# EAGLE library part MAX1522EUT+T (library JH)
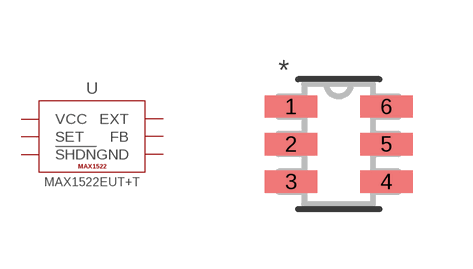
[diagram p0: symbol with the pads of SOT23-6; footprint SOT23-6]

Designator prefix U

## MAX1522EUT+T (MANUFACTURER_PART_NUMBER: MAX1522EUT+T; VENDOR: MAXIM)  [SOT23-6]
1  GND  pwr
2  FB  in
3  SET  in
4  !SHDN  in
5  EXT  out
6  VCC  pwr

## Footprint SOT23-6 (pad centres in mm)
smd 1.321 x 0.559: 1 -1.194,0.94; 2 -1.194,0; 3 -1.194,-0.94; 4 1.194,-0.94; 5 1.194,0; 6 1.194,0.94